# Altium footprint library zhaichl.PcbLib: 24 footprints (part 2 of 2)
Each footprint in its own frame and in the unit in brackets; x right, y up, seen from the top. Pads: shape width x height; smd on the part's side, far side on the other; paste and mask are expansions set on the pad; w line width, h text height; cw(c..) or ccw(c..) is an arc to the next point about the centre after c.
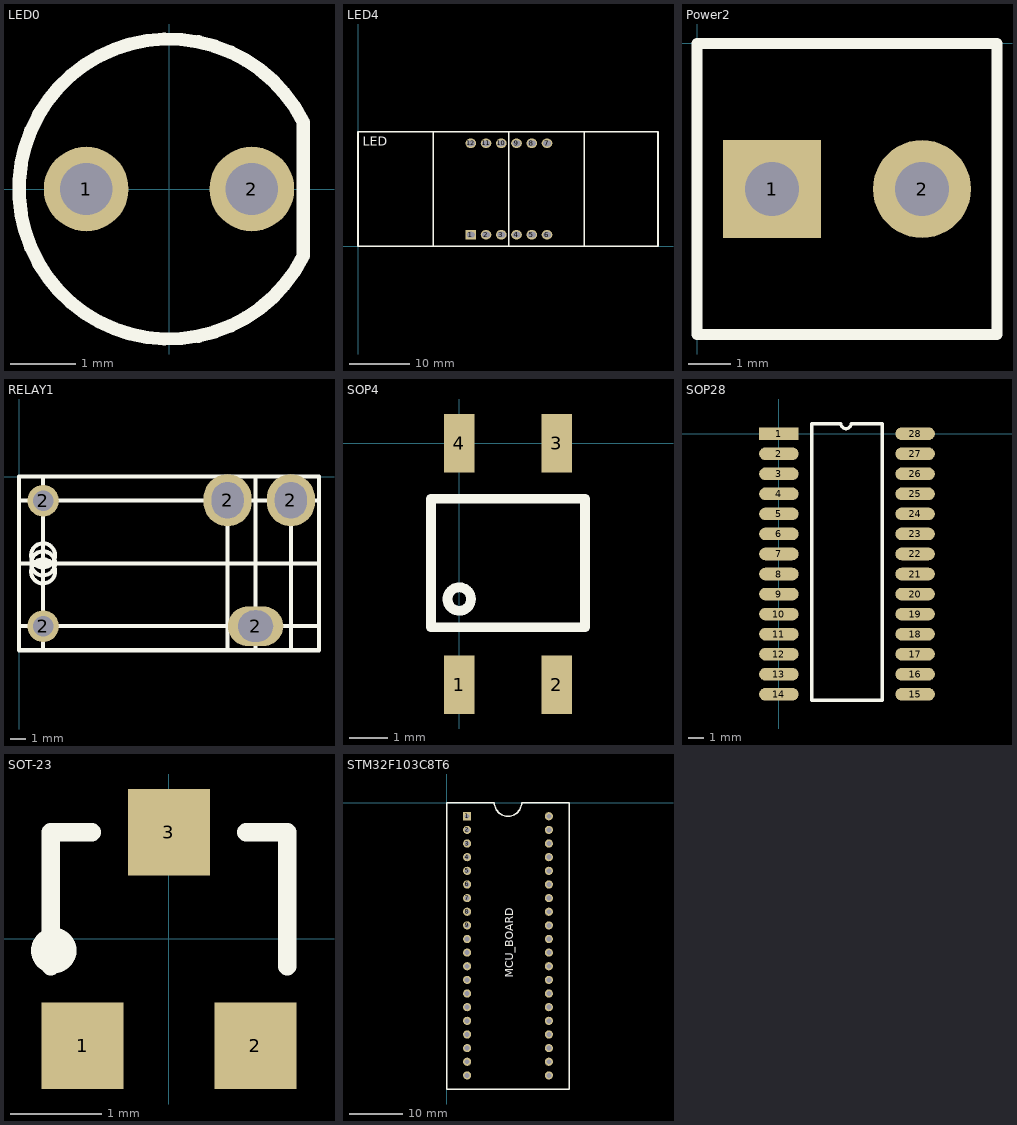
[diagram p1: the footprints below, top view; thin cyan lines are the x and y axes]

## LED0 [mm]
pads (2):
  round 1.3 hole 0.8: 1(-1.27,0) 2(1.27,0)
Top Overlay:
  lines w0.203: 2.057,-1.029 cw(c0,0) 2.057,1.029 2.057,-1.029

## LED4 [mil]
pads (12):
  rect 70x60 hole 36 slot 50 at 0 deg: 1(740,75)
  oval 70x60 hole 36 slot 50 at 0 deg: 2(840,75) 3(940,75) 4(1040,75) 5(1140,75) 6(1240,75) 7(1240,675) 8(1140,675) 9(1040,675) 10(940,675) 11(840,675) 12(740,675)
Top Overlay:
  lines w10: 495,0 495,750 ; 990,0 990,750 ; 1485,0 1485,750 ; 0,0 1968,0 1968,750 0,750 0,0
  text "LED" at 30,660 h60

## Power2 [mil]
pads (2):
  rect 90x90 hole 50: 1(69,-134)
  round 90 hole 50: 2(207,-134)
Top Overlay:
  lines w10: 0,-268 0,0 276,0 276,-268 0,-268

## RELAY1 [mil]
pads (5):
  round 78.74 hole 51.18: 2(60,-373) 2(60,-60)
  oval 120x130 hole 80 slot 90 at 90 deg: 2(520,-59) 2(678,-59)
  oval 137.8x98.43 hole 78.74 slot 86.61 at 0 deg: 2(590,-373)
Top Overlay:
  circle w10: c60,-216.5 r30
  circle w10: c60,-196.5 r30
  circle w10: c60,-236.5 r30
  lines w10: 0,-373 748,-373 ; 0,-216.5 748,-216.5 ; 0,-60 748,-60 ; 60,-433 60,0 ; 520,-433 520,0 ; 590,-433 590,0 ; 678,-433 678,0 ; 0,-433 0,0 748,0 748,-433 0,-433

## SOP4 [mil]
pads (4):
  rect 31.5x60 smd: 1(0,-248) 2(100,-248) 3(100,0) 4(0,0)
Top Overlay:
  circle w10: c-0.04,-160 r12.04
  lines w10: -29,-189 -29,-57 129,-57 129,-189 -29,-189

## SOP28 [mm]
pads (28):
  rect 2.5x0.8 smd: 1(0,0)
  oval 2.5x0.8 smd: 2(0,-1.27) 3(0,-2.54) 4(0,-3.81) 5(0,-5.08) 6(0,-6.35) 7(0,-7.62) 8(0,-8.89) 9(0,-10.16) 10(0,-11.43) 11(0,-12.7) 12(0,-13.97) 13(0,-15.24) 14(0,-16.51) 15(8.636,-16.51) 16(8.636,-15.24) 17(8.636,-13.97) 18(8.636,-12.7) 19(8.636,-11.43) 20(8.636,-10.16) 21(8.636,-8.89) 22(8.636,-7.62) 23(8.636,-6.35) 24(8.636,-5.08) 25(8.636,-3.81) 26(8.636,-2.54) 27(8.636,-1.27) 28(8.636,0)
Top Overlay:
  lines w0.2: 6.553,0.635 6.553,-16.891 2.085,-16.891 2.085,0.635 3.937,0.635 ccw(c4.255,0.635) 4.572,0.635 6.562,0.635

## SOT-23 [mm]
pads (3):
  rect 0.9x0.95 smd: 1(-0.95,-1.175) 2(0.95,-1.175) 3(0,1.175)
Top Overlay:
  circle w0.25: c-1.268,-0.127 r0.125
  lines w0.2: -1.3,-0.3 -1.3,1.175 -0.85,1.175 ; 0.85,1.175 1.3,1.175 1.3,-0.3

## STM32F103C8T6 [mil]
pads (40):
  rect 59.06x59.06 hole 35.43: 1(150,-100)
  round 59.06 hole 35.43: 2(150,-200)
  round 60 hole 36: 3(150,-300) 4(150,-400) 5(150,-500) 6(150,-600) 7(150,-700) 8(150,-800) 9(150,-900) 10(150,-1000) 11(150,-1100) 12(150,-1200) 13(150,-1300) 14(150,-1400) 15(150,-1500) 16(150,-1600) 17(150,-1700) 18(150,-1800) 19(150,-1900) 20(150,-2000) 21(750,-2000) 22(750,-1900) 23(750,-1800) 24(750,-1700) 25(750,-1600) 26(750,-1500) 27(750,-1400) 28(750,-1300) 29(750,-1200) 30(750,-1100) 31(750,-1000) 32(750,-900) 33(750,-800) 34(750,-700) 35(750,-600) 36(750,-500) 37(750,-400) 38(750,-300) 39(750,-200) 40(750,-100)
Top Overlay:
  lines w10: 0,-2020 0,-2100 ; 0,-1595 0,-1515 ; 0,-1090 0,-1010 ; 0,-585 0,-505 ; 0,-80 0,0 ; 80,-2100 0,-2100 ; 80,0 0,0 ; 270,0 350,0 ; 410,-2100 490,-2100 ; 630,0 550,0 ; 820,-2100 900,-2100 ; 820,0 900,0 ; 900,-2099 900,0 ; 900,-2020 900,-2100 ; 900,-1595 900,-1515 ; 900,-1090 900,-1010 ; 900,-585 900,-505 ; 900,-80 900,0 ; 0,-2100 900,-2100 ; 0,-2100 0,0 ; 0,0 350,0 ; 350,0 ccw(c450,0) 550,0 ; 550,0 900,0
  text "MCU_BOARD" at 490,-1285 h60